# Altium schematic symbol library SCH - CONNECTORS - GENERIC - 4 PIN DUAL ROW.SCHLIB: 1 symbol
Pins are listed as number, name and electrical type; pins without a type are passive.

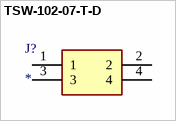
[diagram p0: symbol TSW-102-07-T-D]

## TSW-102-07-T-D
designator J?
Number of Positions: 4 Position / Pitch: 2.54 mm / Number of Rows: 2 Row
pins: 1, 2, 3, 4